# Altium footprint library SMD electrolit CAP.PcbLib: 8 footprints
Each footprint in its own frame and in the unit in brackets; x right, y up, seen from the top. Pads: shape width x height; smd on the part's side, far side on the other; paste and mask are expansions set on the pad; w line width, h text height; cw(c..) or ccw(c..) is an arc to the next point about the centre after c.
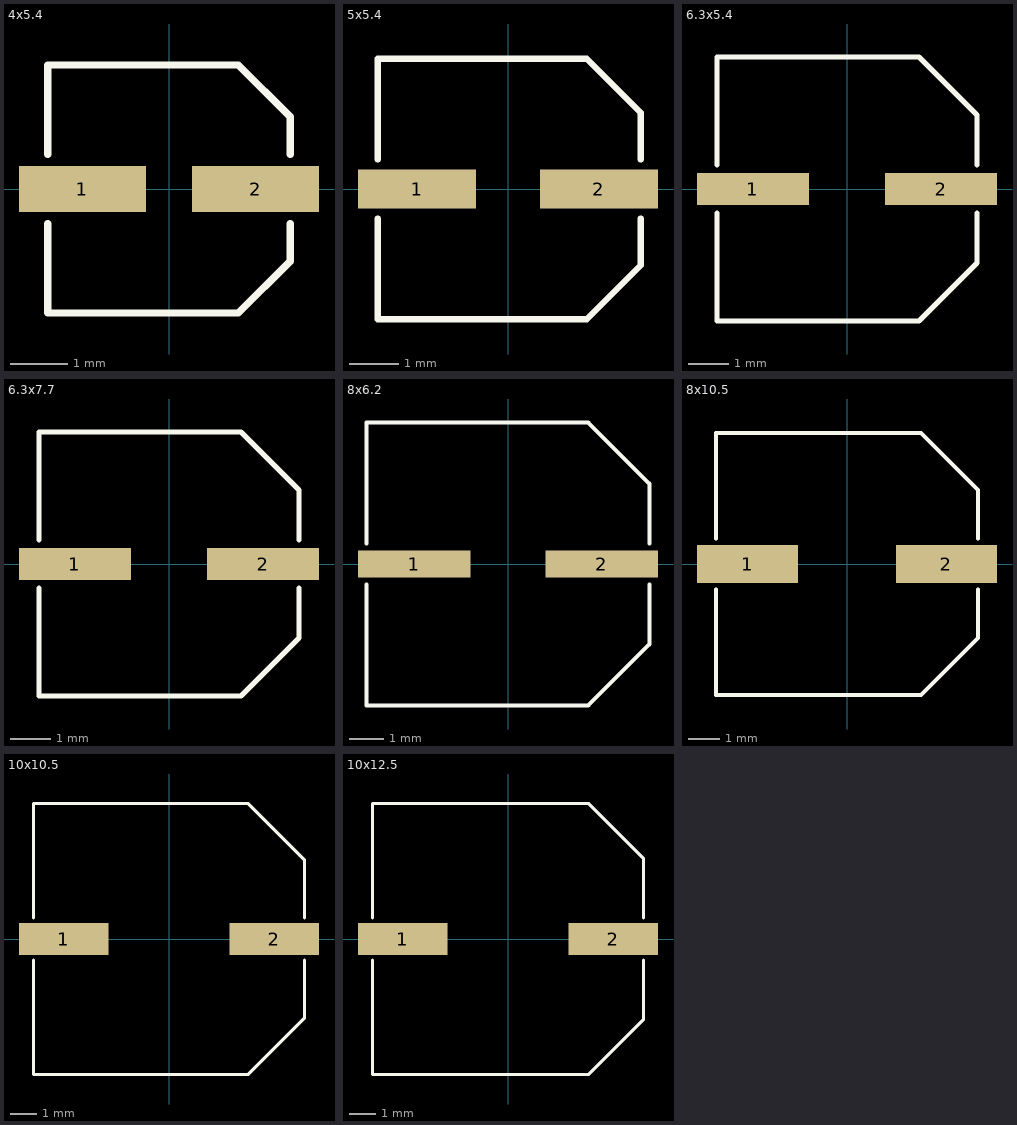
[diagram p0: the footprints below, top view; thin cyan lines are the x and y axes]

## 4x5.4 [mm]
pads (2):
  rect 2.2x0.8 smd mask+0.102: 1(-1.5,0) 2(1.5,0)
Top Overlay:
  lines w0.127: -2.1,-0.6 -2.1,-2.15 1.2,-2.15 2.1,-1.25 2.1,-0.6 ; -2.1,0.6 -2.1,2.15 1.2,2.15 2.1,1.25 2.1,0.6
3D body "D4_H5.4.step": height 5.41, standoff 0, extent -2.548,-2.15 2.548,2.15

## 5x5.4 [mm]
pads (2):
  rect 2.4x0.8 smd mask+0.102: 1(-1.85,0) 2(1.85,0)
Top Overlay:
  lines w0.127: -2.65,-0.6 -2.65,-2.65 1.6,-2.65 2.7,-1.55 2.7,-0.6 ; -2.65,0.6 -2.65,2.65 1.6,2.65 2.7,1.55 2.7,0.6
3D body "D5_H5.3.step": height 5.31, standoff 0, extent -3.048,-2.65 3.048,2.65

## 6.3x5.4 [mm]
pads (2):
  rect 2.8x0.8 smd mask+0.102: 1(-2.35,0) 2(2.35,0)
Top Overlay:
  lines w0.127: -3.25,-0.6 -3.25,-3.3 1.8,-3.3 3.25,-1.85 3.25,-0.6 ; -3.25,0.6 -3.25,3.3 1.8,3.3 3.25,1.85 3.25,0.6
3D body "D6.3_H5.4.step": height 5.41, standoff 0, extent -3.663,-3.3 3.663,3.3

## 6.3x7.7 [mm]
pads (2):
  rect 2.8x0.8 smd mask+0.102: 1(-2.35,0) 2(2.35,0)
Top Overlay:
  lines w0.127: -3.25,-0.6 -3.25,-3.3 1.8,-3.3 3.25,-1.85 3.25,-0.6 ; -3.25,0.6 -3.25,3.3 1.8,3.3 3.25,1.85 3.25,0.6
3D body "D6.3_H7.7.step": height 7.71, standoff 0, extent -3.663,-3.3 3.663,3.3

## 8x6.2 [mm]
pads (2):
  rect 3.3x0.8 smd mask+0.102: 1(-2.75,0) 2(2.75,0)
Top Overlay:
  lines w0.127: -4.15,-0.6 -4.15,-4.15 2.35,-4.15 4.15,-2.35 4.15,-0.6 ; -4.15,0.6 -4.15,4.15 2.35,4.15 4.15,2.35 4.15,0.6
3D body "D8_H6.2_v2.step": height 6.21, standoff 0, extent -4.663,-4.15 4.663,4.15

## 8x10.5 [mm]
pads (2):
  rect 3.2x1.2 smd mask+0.102: 1(-3.15,0) 2(3.15,0)
Top Overlay:
  lines w0.127: -4.15,-0.8 -4.15,-4.15 2.35,-4.15 4.15,-2.35 4.15,-0.8 ; -4.15,0.8 -4.15,4.15 2.35,4.15 4.15,2.35 4.15,0.8
3D body "D8_H10.5_v2.step": height 10.51, standoff 0, extent -4.663,-4.15 4.663,4.15

## 10x10.5 [mm]
pads (2):
  rect 3.4x1.2 smd mask+0.102: 1(-4,0) 2(4,0)
Top Overlay:
  lines w0.127: -5.15,-0.8 -5.15,-5.15 3,-5.15 5.15,-3 5.15,-0.8 ; -5.15,0.8 -5.15,5.15 3,5.15 5.15,3 5.15,0.8
3D body "D10_H10.step": height 10.01, standoff 0, extent -5.663,-5.2 5.663,5.2

## 10x12.5 [mm]
pads (2):
  rect 3.4x1.2 smd mask+0.102: 1(-4,0) 2(4,0)
Top Overlay:
  lines w0.127: -5.15,-0.8 -5.15,-5.15 3.05,-5.15 5.15,-3.05 5.15,-0.8 ; -5.15,0.8 -5.15,5.15 3.05,5.15 5.15,3.05 5.15,0.8
3D body "D10_H14.step": height 14.01, standoff 0, extent -5.663,-5.2 5.663,5.2